# Altium footprint library Components.PcbLib: 46 footprints (part 1 of 3)
Each footprint in its own frame and in the unit in brackets; x right, y up, seen from the top. Pads: shape width x height; smd on the part's side, far side on the other; paste and mask are expansions set on the pad; w line width, h text height; cw(c..) or ccw(c..) is an arc to the next point about the centre after c.
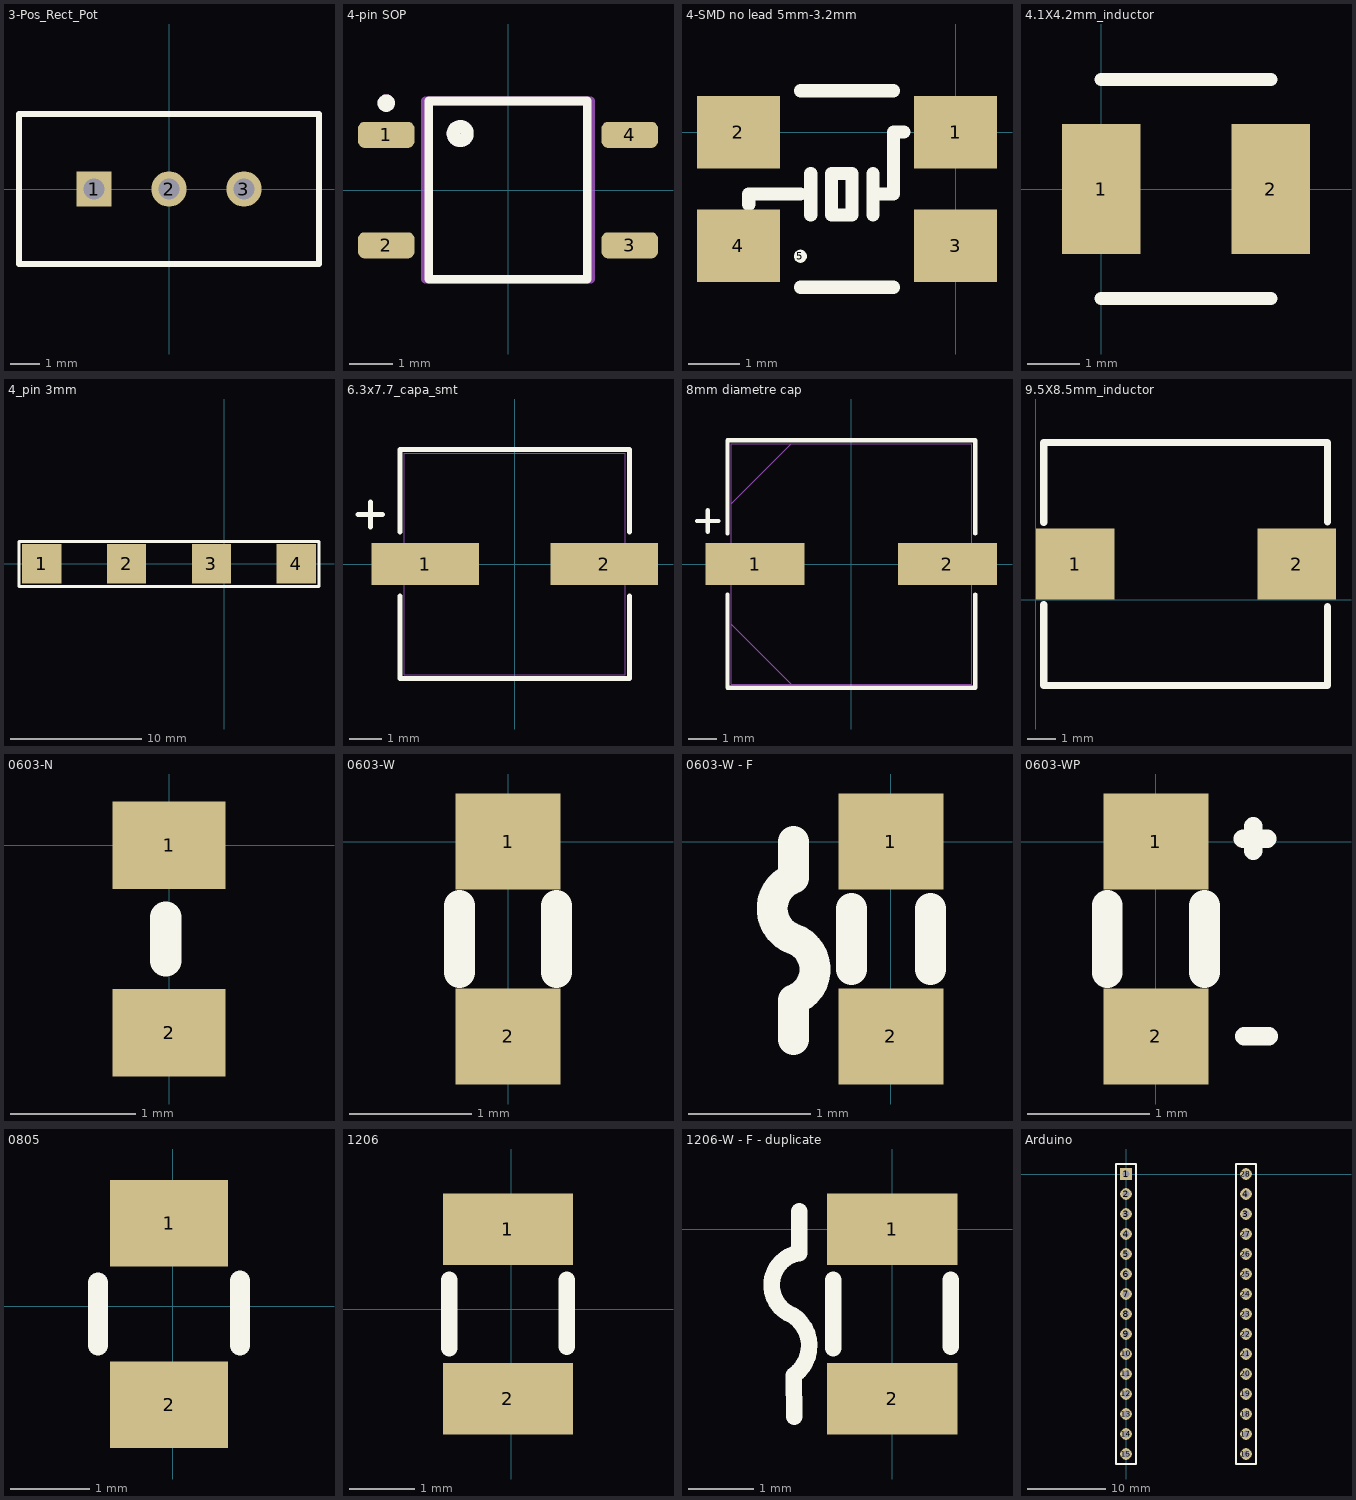
[diagram p0: the footprints below, top view; thin cyan lines are the x and y axes]

## 3-Pos_Rect_Pot [mm] "Thru-Hole; 3 Leads"
pads (3):
  rect 1.2x1.2 hole 0.7: 1(-2.54,0)
  round 1.2 hole 0.7: 2(0,0) 3(2.54,0)
Top Overlay:
  lines w0.2: -5.08,-2.54 -5.08,2.54 5.08,2.54 5.08,0 5.08,-2.54 -5.08,-2.54

## 4-pin SOP [mm]
pads (4):
  rrect50% 1.3x0.6 smd: 1(-2.8,1.27) 2(-2.8,-1.27) 3(2.8,-1.27) 4(2.8,1.27)
Top Overlay:
  circle w0.2: c-2.8,2 r0.1
  circle w0.3: c-1.1,1.3 r0.16
  lines w0.2: -1.825,-2.05 -1.825,2.05 1.825,2.05 1.825,-2.05 -1.825,-2.05
Mechanical 13:
  circle w0.2: c-2.8,2 r0.1
  circle w0.3: c-1.1,1.3 r0.16
  lines w0.2: -1.905,-2.05 -1.905,2.05 1.905,2.05 1.905,-2.05 -1.905,-2.05

## 4-SMD no lead 5mm-3.2mm [mm]
height 1
pads (5):
  rect 1.6x1.4 smd: 1(0,0) 2(-4.2,0) 3(0,-2.2) 4(-4.2,-2.2)
  round 0.254 on Top Overlay: 5(-3,-2.4)
Top Overlay:
  lines w0.254: -4,-1.4 -4,-1.2 -3.8,-1.2 -3,-1.2 ; -3,-3 -1.2,-3 ; -3,0.8 -1.2,0.8 ; -2.8,-1.6 -2.8,-0.8 ; -1.6,-1.6 -1.6,-0.8 ; -1.6,-1.2 -1.2,-1.2 -1.2,0 -1,0 ; -2.4,-1.6 -2.4,-0.8 -2,-0.8 -2,-1.6 -2.4,-1.6
3D body "Aker C5S SMT Crystal.stp": height 1, standoff 0, extent -4.7,-2.8 0.5,0.6

## 4.1X4.2mm_inductor [mm]
pads (2):
  rect 1.5x2.5 smd: 1(0,0) 2(3.25,0)
Top Overlay:
  lines w0.254: 0,-2.1 3.25,-2.1 ; 0,2.1 3.25,2.1

## 4_pin 3mm [mm]
pads (4):
  rect 3x3 smd: 1(-13.9,0) 2(-7.433,0) 3(-0.967,0) 4(5.5,0)
Top Overlay:
  lines w0.254: -15.625,-1.725 -15.625,1.7 7.225,1.7 7.225,-1.725 -15.625,-1.725

## 6.3x7.7_capa_smt [mil]
pads (2):
  rect 130x51 smd paste+0 mask+0: 1(-108.5,0) 2(108.5,0)
Top Overlay:
  lines w6: -190,60 -160,60 ; -175,45 -175,75 ; -139,-38.6 -139,-139 139,-139 139,-38.6 ; -139,38.6 -139,139 139,139 139,38.6
Mechanical 13:
  lines w1: -134,-134 134,-134 134,134 -134,134 -134,-134
3D body: height 10, standoff 0, extent 0,0 10,10
3D body "PCAP_6_3x7_7-ELECT_NCA-M.step": height 317.09, standoff 0, extent -147.48,-135.16 143.54,132.87

## 8mm diametre cap [mil]
pads (2):
  rect 138x59 smd paste+0 mask+0: 1(-134,0) 2(134,0)
Top Overlay:
  lines w6: -215,60 -185,60 ; -200,45 -200,75 ; -172.5,-42.6 -172.5,-172.5 172.5,-172.5 172.5,-42.6 ; -172.5,42.6 -172.5,172.5 172.5,172.5 172.5,42.6
Mechanical 13:
  lines w1: -167.5,-83.75 -83.75,-167.5 ; -167.5,83.75 -83.75,167.5 ; -167.5,-167.5 167.5,-167.5 167.5,167.5 -167.5,167.5 -167.5,-167.5
3D body: height 10, standoff 0, extent 0,0 10,10

## 9.5X8.5mm_inductor [mm]
pads (2):
  rect 2.75x2.5 smd: 1(1.375,1.25) 2(9.125,1.25)
Top Overlay:
  lines w0.254: 0.275,-0.175 0.275,-3 10.2,-3 10.2,-0.25 ; 0.275,2.7 0.275,5.5 10.2,5.5 10.2,2.725

## 0603-N [mm] "0603mil - 1608mm"
pads (2):
  rect 0.9x0.7 smd: 1(0,0) 2(0,-1.5)
Top Overlay:
  lines w0.254: -0.025,-0.925 -0.025,-0.575

## 0603-W [mm] "0603 - 1608"
pads (2):
  rect 0.864x0.787 smd: 1(0,0) 2(0,-1.6)
Top Overlay:
  lines w0.254: -0.4,-1.075 -0.4,-0.525 ; 0.4,-1.075 0.4,-0.525

## 0603-W - F [mm] "0603 - 1608"
pads (2):
  rect 0.864x0.787 smd: 1(0,0) 2(0,-1.6)
Top Overlay:
  lines w0.254: -0.8,-1.625 -0.8,-1.3 ccw(c-0.889,-1.05) -0.8,-0.8 cw(c-0.711,-0.55) -0.8,-0.3 -0.8,0 ; -0.325,-1.05 -0.325,-0.55 ; 0.325,-1.05 0.325,-0.55

## 0603-WP [mm] "0603 - 1608"
pads (2):
  rect 0.864x0.787 smd: 1(0,0) 2(0,-1.6)
Top Overlay:
  lines w0.152: 0.715,0.025 0.915,0.025 ; 0.725,-1.6 0.925,-1.6 ; 0.8,-0.075 0.8,0.125
  lines w0.254: -0.4,-1.075 -0.4,-0.525 ; 0.4,-1.075 0.4,-0.525

## 0805 [mm]
pads (2):
  rect 1.5x1.1 smd: 1(-0.05,1.05) 2(-0.05,-1.25)
Top Overlay:
  lines w0.254: -0.95,-0.5 -0.95,0.3 ; 0.85,-0.5 0.85,0.325

## 1206 [mm]
pads (2):
  rect 2x1.1 smd: 1(-0.05,1.225) 2(-0.05,-1.375)
Top Overlay:
  lines w0.254: -0.95,-0.6 -0.95,0.45 ; 0.85,-0.575 0.85,0.45

## 1206-W - F - duplicate [mm] "0603 - 1608"
pads (2):
  rect 2x1.1 smd: 1(0,0) 2(0,-2.6)
Top Overlay:
  lines w0.254: -1.5,-2.875 -1.505,-2.239 ccw(c-1.826,-1.786) -1.525,-1.32 cw(c-1.35,-0.856) -1.423,-0.365 -1.425,0.275 ; -0.9,-1.825 -0.9,-0.775 ; 0.9,-1.8 0.9,-0.775

## Arduino [mm] "SIMPLE"
pads (30):
  rect 1.5x1.5 hole 0.9: 1(0,0)
  round 1.5 hole 0.9: 2(0,-2.54) 3(0,-5.08) 3(15.24,-5.08) 4(0,-7.62) 4(15.24,-2.54) 5(0,-10.16) 6(0,-12.7) 7(0,-15.24) 8(0,-17.78) 9(0,-20.32) 10(0,-22.86) 11(0,-25.4) 12(0,-27.94) 13(0,-30.48) 14(0,-33.02) 15(0,-35.56) 16(15.24,-35.56) 17(15.24,-33.02) 18(15.24,-30.48) 19(15.24,-27.94) 20(15.24,-25.4) 21(15.24,-22.86) 22(15.24,-20.32) 23(15.24,-17.78) 24(15.24,-15.24) 25(15.24,-12.7) 26(15.24,-10.16) 27(15.24,-7.62) 28(15.24,0)
Top Overlay:
  lines w0.2: -1.27,-36.83 1.27,-36.83 1.27,-0.635 1.27,1.27 -1.27,1.27 -1.27,-36.83 ; 13.97,-36.83 13.97,-34.925 13.97,1.27 16.51,1.27 16.51,-36.83 13.97,-36.83